# Altium integrated library Atmel Touch Solutions.IntLib: 35 symbols
Pins are listed as number, name and electrical type; pins without a type are passive.

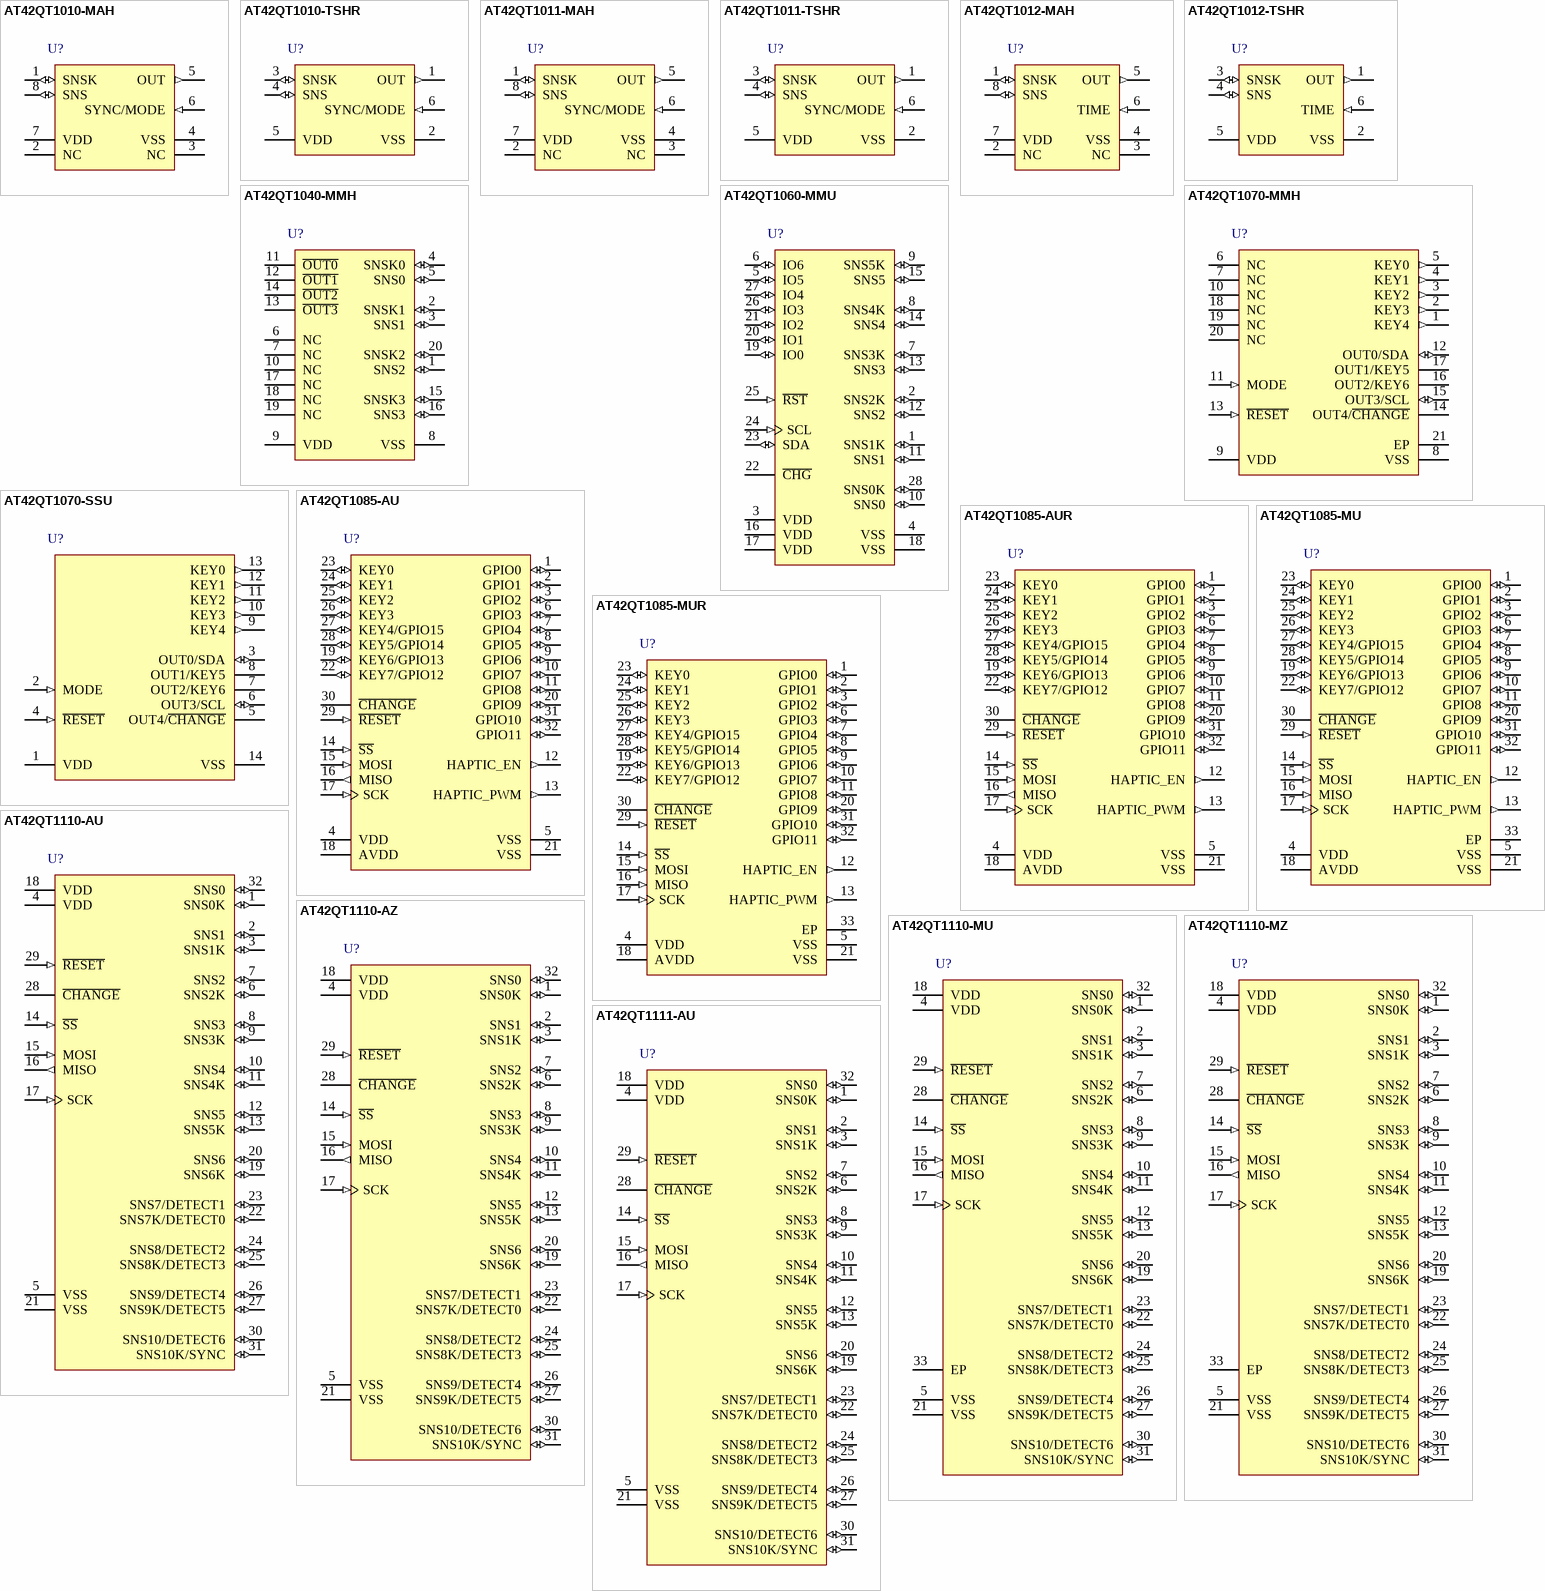
[diagram p0: symbols AT42QT1010-MAH to AT42QT1111-AU]

## AT42QT1010-MAH
designator U?
One-channel Touch Sensor IC with Reset Timer, -40° to +85° C, 8-pin UDFN/USON; DatasheetVersion: revH, May-2010; PackageVersion: revA, Dec-2009; PackageReference: 8MA4; PackageDescription: 8-Pad Plastic Dual Flat No Lead Package (UDFN/USON) Sawn,  2x2x0.6mm Body, 0.5mm Pitch, 0.9x1.5mm Exposed Pad; Code_JEDEC: MO-236/MO-252; ComponentLink1Description: Manufacturer URL; ComponentLink1URL: http://www.atmel.com/; ComponentLink2Description: Datasheet; ComponentLink2URL: http://www.atmel.com/Images/doc9541.pdf
footprint 8MA4 (SON, 8-Leads, Body 2x2mm, Pitch 0.5mm)
pins: 1 SNSK (io), 2 NC, 3 NC, 4 VSS (power), 5 OUT (out), 6 SYNC/MODE (in), 7 VDD (power), 8 SNS (io)

## AT42QT1010-TSHR
designator U?
One-channel Touch Sensor IC with Reset Timer, -40° to +85° C, 6-pin SOT23; DatasheetVersion: revH, May-2010; PackageVersion: revA, Jun-2008; PackageReference: 6ST1; PackageDescription: 6-Lead, 2.90 x 1.60 mm Plastic Small Outline Package (SOT23); Code_JEDEC: MO-178-AB; Code_IPC: SOT26A-6; ComponentLink1Description: Manufacturer URL; ComponentLink1URL: http://www.atmel.com/; ComponentLink2Description: Datasheet; ComponentLink2URL: http://www.atmel.com/Images/doc9541.pdf
footprint 6ST1_N (SOT23, 6-Leads, Body 2.9x1.6mm, Pitch 0.95mm, Lead Span 2.7mm, IPC Medium Density)
footprint 6ST1_L (SOT23, 6-Leads, Body 2.9x1.6mm, Pitch 0.95mm, Lead Span 2.7mm, IPC High Density)
footprint 6ST1_M (SOT23, 6-Leads, Body 2.9x1.6mm, Pitch 0.95mm, Lead Span 2.7mm, IPC Low Density)
pins: 1 OUT (out), 2 VSS (power), 3 SNSK (io), 4 SNS (io), 5 VDD (power), 6 SYNC/MODE (in)

## AT42QT1011-MAH
designator U?
One-channel Touch Sensor IC, -40° to +85° C, 8-pin UDFN/USON; DatasheetVersion: revH, May-2010; PackageVersion: revA, Dec-2009; PackageReference: 8MA4; PackageDescription: 8-Pad Plastic Dual Flat No Lead Package (UDFN/USON) Sawn,  2x2x0.6mm Body, 0.5mm Pitch, 0.9x1.5mm Exposed Pad; Code_JEDEC: MO-236/MO-252; ComponentLink1Description: Manufacturer URL; ComponentLink1URL: http://www.atmel.com/; ComponentLink2Description: Datasheet; ComponentLink2URL: http://www.atmel.com/Images/doc9542.pdf
footprint 8MA4 (SON, 8-Leads, Body 2x2mm, Pitch 0.5mm)
pins: 1 SNSK (io), 2 NC, 3 NC, 4 VSS (power), 5 OUT (out), 6 SYNC/MODE (in), 7 VDD (power), 8 SNS (io)

## AT42QT1011-TSHR
designator U?
One-channel Touch Sensor IC, -40° to +85° C, 6-pin SOT23; DatasheetVersion: revH, May-2010; PackageVersion: revA, Jun-2008; PackageReference: 6ST1; PackageDescription: 6-Lead, 2.90 x 1.60 mm Plastic Small Outline Package (SOT23); Code_JEDEC: MO-178-AB; Code_IPC: SOT26A-6; ComponentLink1Description: Manufacturer URL; ComponentLink1URL: http://www.atmel.com/; ComponentLink2Description: Datasheet; ComponentLink2URL: http://www.atmel.com/Images/doc9542.pdf
footprint 6ST1_N (SOT23, 6-Leads, Body 2.9x1.6mm, Pitch 0.95mm, Lead Span 2.7mm, IPC Medium Density)
footprint 6ST1_L (SOT23, 6-Leads, Body 2.9x1.6mm, Pitch 0.95mm, Lead Span 2.7mm, IPC High Density)
footprint 6ST1_M (SOT23, 6-Leads, Body 2.9x1.6mm, Pitch 0.95mm, Lead Span 2.7mm, IPC Low Density)
pins: 1 OUT (out), 2 VSS (power), 3 SNSK (io), 4 SNS (io), 5 VDD (power), 6 SYNC/MODE (in)

## AT42QT1012-MAH
designator U?
One-channel Toggle-mode Touch Sensor IC with Power Management Functions, -40° to +85° C, 8-pin UDFN/USON; DatasheetVersion: revD, Aug-2010; PackageVersion: revA, Dec-2009; PackageReference: 8MA4; PackageDescription: 8-Pad Plastic Dual Flat No Lead Package (UDFN/USON) Sawn,  2x2x0.6mm Body, 0.5mm Pitch, 0.9x1.5mm Exposed Pad; Code_JEDEC: MO-236/MO-252; ComponentLink1Description: Manufacturer URL; ComponentLink1URL: http://www.atmel.com/; ComponentLink2Description: Datasheet; ComponentLink2URL: http://www.atmel.com/Images/doc9543.pdf
footprint 8MA4 (SON, 8-Leads, Body 2x2mm, Pitch 0.5mm)
pins: 1 SNSK (io), 2 NC, 3 NC, 4 VSS (power), 5 OUT (out), 6 TIME (in), 7 VDD (power), 8 SNS (io)

## AT42QT1012-TSHR
designator U?
One-channel Toggle-mode Touch Sensor IC with Power Management Functions, -40° to +85° C, 6-pin SOT23; DatasheetVersion: revD, Aug-2010; PackageVersion: revA, Jun-2008; PackageReference: 6ST1; PackageDescription: 6-Lead, 2.90 x 1.60 mm Plastic Small Outline Package (SOT23); Code_JEDEC: MO-178-AB; Code_IPC: SOT26A-6; ComponentLink1Description: Manufacturer URL; ComponentLink1URL: http://www.atmel.com/; ComponentLink2Description: Datasheet; ComponentLink2URL: http://www.atmel.com/Images/doc9543.pdf
footprint 6ST1_N (SOT23, 6-Leads, Body 2.9x1.6mm, Pitch 0.95mm, Lead Span 2.7mm, IPC Medium Density)
footprint 6ST1_L (SOT23, 6-Leads, Body 2.9x1.6mm, Pitch 0.95mm, Lead Span 2.7mm, IPC High Density)
footprint 6ST1_M (SOT23, 6-Leads, Body 2.9x1.6mm, Pitch 0.95mm, Lead Span 2.7mm, IPC Low Density)
pins: 1 OUT (out), 2 VSS (power), 3 SNSK (io), 4 SNS (io), 5 VDD (power), 6 TIME (in)

## AT42QT1040-MMH
designator U?
QTouch 4-key Sensor IC, -40° to +85° C, 20-Pin VQFN; DatasheetVersion: revB, Apr-2009; PackageVersion: revB, Oct-2008; PackageReference: 20M2; PackageDescription: 20-pad, 3x3x0.85mm Body, Pitch 0.45mm, 1.55x1.55mm Exposed Pad, Plastic Very Thin QFN Package (VQFN); ComponentLink1Description: Manufacturer URL; ComponentLink1URL: http://www.atmel.com/; ComponentLink2Description: Datasheet; ComponentLink2URL: http://www.atmel.com/Images/doc9524.pdf
footprint 20M2_N (QFN, 20-Leads, Body 3x3mm, Pitch 0.45mm, Thermal Pad 1.7x1.7mm, IPC Medium Density)
footprint 20M2_L (QFN, 20-Leads, Body 3x3mm, Pitch 0.45mm, Thermal Pad 1.7x1.7mm, IPC High Density)
footprint 20M2_M (QFN, 20-Leads, Body 3x3mm, Pitch 0.45mm, Thermal Pad 1.7x1.7mm, IPC Low Density)
pins: 1 SNS2 (io), 2 SNSK1 (io), 3 SNS1 (io), 4 SNSK0 (io), 5 SNS0 (io), 6 NC, 7 NC, 8 VSS (power), 9 VDD (power), 10 NC, 11 ~{OUT0} (oc), 12 ~{OUT1} (oc), 13 ~{OUT3} (oc), 14 ~{OUT2} (oc), 15 SNSK3 (io), 16 SNS3 (io), 17 NC, 18 NC, 19 NC, 20 SNSK2 (io)

## AT42QT1060-MMU
designator U?
QTouch 6-channel Sensor IC, -40° to +85° C, 28-Pin VQFN; DatasheetVersion: revE, Feb-2009; PackageVersion: revB, Nov-2008; PackageReference: 28M1; PackageDescription: 28-pad, 4x4x1.0mm Body, Pitch 0.45mm, 2.4x2.4mm Exposed Pad, Plastic Very Thin QFN Package (VQFN); ComponentLink1Description: Manufacturer URL; ComponentLink1URL: http://www.atmel.com/; ComponentLink2Description: Datasheet; ComponentLink2URL: http://www.atmel.com/Images/doc9505.pdf
footprint 28M1_N (QFN, 28-Leads, Body 4x4mm, Pitch 0.45mm, Thermal Pad 2.5x2.5mm, IPC Medium Density)
footprint 28M1_L (QFN, 28-Leads, Body 4x4mm, Pitch 0.45mm, Thermal Pad 2.5x2.5mm, IPC High Density)
footprint 28M1_M (QFN, 28-Leads, Body 4x4mm, Pitch 0.45mm, Thermal Pad 2.5x2.5mm, IPC Low Density)
pins: 1 SNS1K (io), 2 SNS2K (io), 3 VDD (power), 4 VSS (power), 5 IO5 (io), 6 IO6 (io), 7 SNS3K (io), 8 SNS4K (io), 9 SNS5K (io), 10 SNS0 (io), 11 SNS1 (io), 12 SNS2 (io), 13 SNS3 (io), 14 SNS4 (io), 15 SNS5 (io), 16 VDD (power), 17 VDD (power), 18 VSS (power), 19 IO0 (io), 20 IO1 (io), 21 IO2 (io), 22 ~{CHG} (oc), 23 SDA (io), 24 SCL (in), 25 ~{RST} (in), 26 IO3 (io), 27 IO4 (io), 28 SNS0K (io)

## AT42QT1070-MMH
designator U?
QTouch 7-channel Sensor IC, -40° to +85° C, 20-Pin VQFN; DatasheetVersion: revA, Oct-2010; PackageVersion: revB, Oct-2008; PackageReference: 20M2; PackageDescription: 20-pad, 3x3x0.85mm Body, Pitch 0.45mm, 1.55x1.55mm Exposed Pad, Plastic Very Thin QFN Package (VQFN); ComponentLink1Description: Manufacturer URL; ComponentLink1URL: http://www.atmel.com/; ComponentLink2Description: Datasheet; ComponentLink2URL: http://www.atmel.com/Images/doc9596.pdf
footprint 20M2_N (QFN, 20-Leads, Body 3x3mm, Pitch 0.45mm, Thermal Pad 1.7x1.7mm, IPC Medium Density)
footprint 20M2_L (QFN, 20-Leads, Body 3x3mm, Pitch 0.45mm, Thermal Pad 1.7x1.7mm, IPC High Density)
footprint 20M2_M (QFN, 20-Leads, Body 3x3mm, Pitch 0.45mm, Thermal Pad 1.7x1.7mm, IPC Low Density)
pins: 1 KEY4 (out), 2 KEY3 (out), 3 KEY2 (out), 4 KEY1 (out), 5 KEY0 (out), 6 NC, 7 NC, 8 VSS (power), 9 VDD (power), 10 NC, 11 MODE (in), 12 OUT0/SDA (io), 13 ~{RESET} (in), 14 OUT4/~{CHANGE} (oc), 15 OUT3/SCL (io), 16 OUT2/KEY6 (oc), 17 OUT1/KEY5 (oc), 18 NC, 19 NC, 20 NC, 21 EP (power)

## AT42QT1070-SSU
designator U?
QTouch 7-channel Sensor IC, -40° to +85° C, 14-Pin SOIC; DatasheetVersion: revA, Oct-2010; PackageVersion: revA, Feb-2002; PackageReference: 14S1; PackageDescription: 14-Lead, 0.150” Wide Body, Plastic Gull Wing Small Outline Package (SOIC); Code_JEDEC: MS-012-AB; Code_IPC: SOIC127P600-14; ComponentLink1Description: Manufacturer URL; ComponentLink1URL: http://www.atmel.com/; ComponentLink2Description: Datasheet; ComponentLink2URL: http://www.atmel.com/Images/doc9596.pdf
footprint 14S1_N (SOIC, 14-Leads, Body 8.6x3.9mm, Pitch 1.27mm, IPC Medium Density)
footprint 14S1_L (SOIC, 14-Leads, Body 8.6x3.9mm, Pitch 1.27mm, IPC High Density)
footprint 14S1_M (SOIC, 14-Leads, Body 8.6x3.9mm, Pitch 1.27mm, IPC Low Density)
pins: 1 VDD (power), 2 MODE (in), 3 OUT0/SDA (io), 4 ~{RESET} (in), 5 OUT4/~{CHANGE} (oc), 6 OUT3/SCL (io), 7 OUT2/KEY6 (oc), 8 OUT1/KEY5 (oc), 9 KEY4 (out), 10 KEY3 (out), 11 KEY2 (out), 12 KEY1 (out), 13 KEY0 (out), 14 VSS (power)

## AT42QT1085-AU
designator U?
QTouch 8-key Sensor IC, -40° to +85° C, 32-Pin TQFP; DatasheetVersion: revCX, Dec-2011; PackageVersion: revC, Oct-2010; PackageReference: 32A; PackageDescription: 32-Lead, 7x7x1.0 mm Body, 0.8mm Lead Pitch, Thin Profile Plastic Quad Flat Package (TQFP); Code_JEDEC: MS-026-ABA; ComponentLink1Description: Manufacturer URL; ComponentLink1URL: http://www.atmel.com/; ComponentLink2Description: Datasheet; ComponentLink2URL: http://www.atmel.com/Images/doc9625.pdf
footprint 32A_N (Thin QFP, 32-Leads, Body 7x7mm, Pitch 0.8mm, IPC Medium Density)
footprint 32A_L (Thin QFP, 32-Leads, Body 7x7mm, Pitch 0.8mm, IPC High Density)
footprint 32A_M (Thin QFP, 32-Leads, Body 7x7mm, Pitch 0.8mm, IPC Low Density)
pins: 1 GPIO0 (io), 2 GPIO1 (io), 3 GPIO2 (io), 4 VDD (power), 5 VSS (power), 6 GPIO3 (io), 7 GPIO4 (io), 8 GPIO5 (io), 9 GPIO6 (io), 10 GPIO7 (io), 11 GPIO8 (io), 12 HAPTIC_EN (out), 13 HAPTIC_PWM (out), 14 ~{SS} (in), 15 MOSI (in), 16 MISO (out), 17 SCK (in), 18 AVDD (power), 19 KEY6/GPIO13 (io), 20 GPIO9 (io), 21 VSS (power), 22 KEY7/GPIO12 (io), 23 KEY0 (io), 24 KEY1 (io), 25 KEY2 (io), 26 KEY3 (io), 27 KEY4/GPIO15 (io), 28 KEY5/GPIO14 (io), 29 ~{RESET} (in), 30 ~{CHANGE} (oc), 31 GPIO10 (io), 32 GPIO11 (io)

## AT42QT1085-AUR
designator U?
QTouch 8-key Sensor IC, -40° to +85° C, 32-Pin TQFP; DatasheetVersion: revCX, Dec-2011; PackageVersion: revC, Oct-2010; PackageReference: 32A; PackageDescription: 32-Lead, 7x7x1.0 mm Body, 0.8mm Lead Pitch, Thin Profile Plastic Quad Flat Package (TQFP); Code_JEDEC: MS-026-ABA; ComponentLink1Description: Manufacturer URL; ComponentLink1URL: http://www.atmel.com/; ComponentLink2Description: Datasheet; ComponentLink2URL: http://www.atmel.com/Images/doc9625.pdf
footprint 32A_N (Thin QFP, 32-Leads, Body 7x7mm, Pitch 0.8mm, IPC Medium Density)
footprint 32A_L (Thin QFP, 32-Leads, Body 7x7mm, Pitch 0.8mm, IPC High Density)
footprint 32A_M (Thin QFP, 32-Leads, Body 7x7mm, Pitch 0.8mm, IPC Low Density)
pins: 1 GPIO0 (io), 2 GPIO1 (io), 3 GPIO2 (io), 4 VDD (power), 5 VSS (power), 6 GPIO3 (io), 7 GPIO4 (io), 8 GPIO5 (io), 9 GPIO6 (io), 10 GPIO7 (io), 11 GPIO8 (io), 12 HAPTIC_EN (out), 13 HAPTIC_PWM (out), 14 ~{SS} (in), 15 MOSI (in), 16 MISO (out), 17 SCK (in), 18 AVDD (power), 19 KEY6/GPIO13 (io), 20 GPIO9 (io), 21 VSS (power), 22 KEY7/GPIO12 (io), 23 KEY0 (io), 24 KEY1 (io), 25 KEY2 (io), 26 KEY3 (io), 27 KEY4/GPIO15 (io), 28 KEY5/GPIO14 (io), 29 ~{RESET} (in), 30 ~{CHANGE} (oc), 31 GPIO10 (io), 32 GPIO11 (io)

## AT42QT1085-MU
designator U?
QTouch 8-key Sensor IC, -40° to +85° C, 32-Pin MLF; DatasheetVersion: revCX, Dec-2011; PackageVersion: revE, May-2006; PackageReference: 32M1-A; PackageDescription: 32-Pin Micro Lead Frame Package (MLF),  5 x 5 x 1.0 mm Body, Pitch 0.50 mm, 3.10mm Exposed Pad; Code_JEDEC: MO-220-VHHD-2; ComponentLink1Description: Manufacturer URL; ComponentLink1URL: http://www.atmel.com/; ComponentLink2Description: Datasheet; ComponentLink2URL: http://www.atmel.com/Images/doc9625.pdf
footprint 32M1-A_N (QFN, 32-Leads, Body 5x5mm, Pitch 0.5mm, Thermal Pad 3.3x3.3mm, IPC Medium Density)
footprint 32M1-A_L (QFN, 32-Leads, Body 5x5mm, Pitch 0.5mm, Thermal Pad 3.3x3.3mm, IPC High Density)
footprint 32M1-A_M (QFN, 32-Leads, Body 5x5mm, Pitch 0.5mm, Thermal Pad 3.3x3.3mm, IPC Low Density)
pins: 1 GPIO0 (io), 2 GPIO1 (io), 3 GPIO2 (io), 4 VDD (power), 5 VSS (power), 6 GPIO3 (io), 7 GPIO4 (io), 8 GPIO5 (io), 9 GPIO6 (io), 10 GPIO7 (io), 11 GPIO8 (io), 12 HAPTIC_EN (out), 13 HAPTIC_PWM (out), 14 ~{SS} (in), 15 MOSI (in), 16 MISO (in), 17 SCK (in), 18 AVDD (power), 19 KEY6/GPIO13 (io), 20 GPIO9 (io), 21 VSS (power), 22 KEY7/GPIO12 (io), 23 KEY0 (io), 24 KEY1 (io), 25 KEY2 (io), 26 KEY3 (io), 27 KEY4/GPIO15 (io), 28 KEY5/GPIO14 (io), 29 ~{RESET} (in), 30 ~{CHANGE} (oc), 31 GPIO10 (io), 32 GPIO11 (io), 33 EP (power)

## AT42QT1085-MUR
designator U?
QTouch 8-key Sensor IC, -40° to +85° C, 32-Pin MLF; DatasheetVersion: revCX, Dec-2011; PackageVersion: revE, May-2006; PackageReference: 32M1-A; PackageDescription: 32-Pin Micro Lead Frame Package (MLF),  5 x 5 x 1.0 mm Body, Pitch 0.50 mm, 3.10mm Exposed Pad; Code_JEDEC: MO-220-VHHD-2; ComponentLink1Description: Manufacturer URL; ComponentLink1URL: http://www.atmel.com/; ComponentLink2Description: Datasheet; ComponentLink2URL: http://www.atmel.com/Images/doc9625.pdf
footprint 32M1-A_N (QFN, 32-Leads, Body 5x5mm, Pitch 0.5mm, Thermal Pad 3.3x3.3mm, IPC Medium Density)
footprint 32M1-A_L (QFN, 32-Leads, Body 5x5mm, Pitch 0.5mm, Thermal Pad 3.3x3.3mm, IPC High Density)
footprint 32M1-A_M (QFN, 32-Leads, Body 5x5mm, Pitch 0.5mm, Thermal Pad 3.3x3.3mm, IPC Low Density)
pins: 1 GPIO0 (io), 2 GPIO1 (io), 3 GPIO2 (io), 4 VDD (power), 5 VSS (power), 6 GPIO3 (io), 7 GPIO4 (io), 8 GPIO5 (io), 9 GPIO6 (io), 10 GPIO7 (io), 11 GPIO8 (io), 12 HAPTIC_EN (out), 13 HAPTIC_PWM (out), 14 ~{SS} (in), 15 MOSI (in), 16 MISO (in), 17 SCK (in), 18 AVDD (power), 19 KEY6/GPIO13 (io), 20 GPIO9 (io), 21 VSS (power), 22 KEY7/GPIO12 (io), 23 KEY0 (io), 24 KEY1 (io), 25 KEY2 (io), 26 KEY3 (io), 27 KEY4/GPIO15 (io), 28 KEY5/GPIO14 (io), 29 ~{RESET} (in), 30 ~{CHANGE} (oc), 31 GPIO10 (io), 32 GPIO11 (io), 33 EP (power)

## AT42QT1110-AU
designator U?
QTouch 11-key Sensor IC, 3.0 to 5.5V, -40° to +85° C, 32-Pin TQFP; DatasheetVersion: revI, Mar-2010; PackageVersion: revC, Oct-2010; PackageReference: 32A; PackageDescription: 32-Lead, 7x7x1.0 mm Body, 0.8mm Lead Pitch, Thin Profile Plastic Quad Flat Package (TQFP); Code_JEDEC: MS-026-ABA; ComponentLink1Description: Manufacturer URL; ComponentLink1URL: http://www.atmel.com/; ComponentLink2Description: Datasheet; ComponentLink2URL: http://www.atmel.com/Images/doc9520.pdf
footprint 32A_N (Thin QFP, 32-Leads, Body 7x7mm, Pitch 0.8mm, IPC Medium Density)
footprint 32A_L (Thin QFP, 32-Leads, Body 7x7mm, Pitch 0.8mm, IPC High Density)
footprint 32A_M (Thin QFP, 32-Leads, Body 7x7mm, Pitch 0.8mm, IPC Low Density)
pins: 1 SNS0K (io), 2 SNS1 (io), 3 SNS1K (io), 4 VDD (power), 5 VSS (power), 6 SNS2K (io), 7 SNS2 (io), 8 SNS3 (io), 9 SNS3K (io), 10 SNS4 (io), 11 SNS4K (io), 12 SNS5 (io), 13 SNS5K (io), 14 ~{SS} (in), 15 MOSI (in), 16 MISO (out), 17 SCK (in), 18 VDD (power), 19 SNS6K (io), 20 SNS6 (io), 21 VSS (power), 22 SNS7K/DETECT0 (io), 23 SNS7/DETECT1 (io), 24 SNS8/DETECT2 (io), 25 SNS8K/DETECT3 (io), 26 SNS9/DETECT4 (io), 27 SNS9K/DETECT5 (io), 28 ~{CHANGE} (oc), 29 ~{RESET} (in), 30 SNS10/DETECT6 (io), 31 SNS10K/SYNC (io), 32 SNS0 (io)

## AT42QT1110-AZ
designator U?
QTouch 11-key Sensor IC, Automotive Qualified, -40° to +125° C32-Pin TQFP; DatasheetVersion: revI, Mar-2010; PackageVersion: revB, Jul-2007; PackageReference: 32MA; PackageDescription: 32-Lead Thin Profile Plastic Quad Flatpack (TQFP) - 7x7x1mm Body,  0.8 mm Pitch; ComponentLink1Description: Manufacturer URL; ComponentLink1URL: http://www.atmel.com/; ComponentLink2Description: Datasheet; ComponentLink2URL: http://www.atmel.com/Images/doc9570.pdf
footprint 32MA_N (Thin QFP, 32-Leads, Body 7x7mm, Pitch 0.8mm, IPC Medium Density)
footprint 32MA_L (Thin QFP, 32-Leads, Body 7x7mm, Pitch 0.8mm, IPC High Density)
footprint 32MA_M (Thin QFP, 32-Leads, Body 7x7mm, Pitch 0.8mm, IPC Low Density)
pins: 1 SNS0K (io), 2 SNS1 (io), 3 SNS1K (io), 4 VDD (power), 5 VSS (power), 6 SNS2K (io), 7 SNS2 (io), 8 SNS3 (io), 9 SNS3K (io), 10 SNS4 (io), 11 SNS4K (io), 12 SNS5 (io), 13 SNS5K (io), 14 ~{SS} (in), 15 MOSI (in), 16 MISO (out), 17 SCK (in), 18 VDD (power), 19 SNS6K (io), 20 SNS6 (io), 21 VSS (power), 22 SNS7K/DETECT0 (io), 23 SNS7/DETECT1 (io), 24 SNS8/DETECT2 (io), 25 SNS8K/DETECT3 (io), 26 SNS9/DETECT4 (io), 27 SNS9K/DETECT5 (io), 28 ~{CHANGE} (oc), 29 ~{RESET} (in), 30 SNS10/DETECT6 (io), 31 SNS10K/SYNC (io), 32 SNS0 (io)

## AT42QT1110-MU
designator U?
QTouch 11-key Sensor IC, 3.0 to 5.5V, -40° to +85° C, 32-Pin MLF; DatasheetVersion: revI, Mar-2010; PackageVersion: revE, May-2006; PackageReference: 32M1-A; PackageDescription: 32-Pin Micro Lead Frame Package (MLF),  5 x 5 x 1.0 mm Body, Pitch 0.50 mm, 3.10mm Exposed Pad; Code_JEDEC: MO-220-VHHD-2; ComponentLink1Description: Manufacturer URL; ComponentLink1URL: http://www.atmel.com/; ComponentLink2Description: Datasheet; ComponentLink2URL: http://www.atmel.com/Images/doc9520.pdf
footprint 32M1-A_N (QFN, 32-Leads, Body 5x5mm, Pitch 0.5mm, Thermal Pad 3.3x3.3mm, IPC Medium Density)
footprint 32M1-A_L (QFN, 32-Leads, Body 5x5mm, Pitch 0.5mm, Thermal Pad 3.3x3.3mm, IPC High Density)
footprint 32M1-A_M (QFN, 32-Leads, Body 5x5mm, Pitch 0.5mm, Thermal Pad 3.3x3.3mm, IPC Low Density)
pins: 1 SNS0K (io), 2 SNS1 (io), 3 SNS1K (io), 4 VDD (power), 5 VSS (power), 6 SNS2K (io), 7 SNS2 (io), 8 SNS3 (io), 9 SNS3K (io), 10 SNS4 (io), 11 SNS4K (io), 12 SNS5 (io), 13 SNS5K (io), 14 ~{SS} (in), 15 MOSI (in), 16 MISO (out), 17 SCK (in), 18 VDD (power), 19 SNS6K (io), 20 SNS6 (io), 21 VSS (power), 22 SNS7K/DETECT0 (io), 23 SNS7/DETECT1 (io), 24 SNS8/DETECT2 (io), 25 SNS8K/DETECT3 (io), 26 SNS9/DETECT4 (io), 27 SNS9K/DETECT5 (io), 28 ~{CHANGE} (oc), 29 ~{RESET} (in), 30 SNS10/DETECT6 (io), 31 SNS10K/SYNC (io), 32 SNS0 (io), 33 EP (power)

## AT42QT1110-MZ
designator U?
QTouch 11-key Sensor IC, Automotive Qualified, -40° to +125° C32-Pin QFN; DatasheetVersion: revI, Mar-2010; PackageVersion: revH, Nov-2008; PackageReference: 32PN; PackageDescription: 32-Pin Quad Flat No-Lead, 5 x 5 mm Body,  0.5 mm Pitch (QFN); Code_JEDEC: MO-220-VHHD-2; ComponentLink1Description: Manufacturer URL; ComponentLink1URL: http://www.atmel.com/; ComponentLink2Description: Datasheet; ComponentLink2URL: http://www.atmel.com/Images/doc9570.pdf
footprint 32PN_N (QFN, 32-Leads, Body 5x5mm, Pitch 0.5mm, Thermal Pad 3.2x3.2mm, IPC Medium Density)
footprint 32PN_L (QFN, 32-Leads, Body 5x5mm, Pitch 0.5mm, Thermal Pad 3.2x3.2mm, IPC High Density)
footprint 32PN_M (QFN, 32-Leads, Body 5x5mm, Pitch 0.5mm, Thermal Pad 3.2x3.2mm, IPC Low Density)
pins: 1 SNS0K (io), 2 SNS1 (io), 3 SNS1K (io), 4 VDD (power), 5 VSS (power), 6 SNS2K (io), 7 SNS2 (io), 8 SNS3 (io), 9 SNS3K (io), 10 SNS4 (io), 11 SNS4K (io), 12 SNS5 (io), 13 SNS5K (io), 14 ~{SS} (in), 15 MOSI (in), 16 MISO (out), 17 SCK (in), 18 VDD (power), 19 SNS6K (io), 20 SNS6 (io), 21 VSS (power), 22 SNS7K/DETECT0 (io), 23 SNS7/DETECT1 (io), 24 SNS8/DETECT2 (io), 25 SNS8K/DETECT3 (io), 26 SNS9/DETECT4 (io), 27 SNS9K/DETECT5 (io), 28 ~{CHANGE} (oc), 29 ~{RESET} (in), 30 SNS10/DETECT6 (io), 31 SNS10K/SYNC (io), 32 SNS0 (io), 33 EP (power)

## AT42QT1111-AU
designator U?
QTouch 11-key Sensor IC, 1.8 to 5.5V, -40° to +85° C, 32-Pin TQFP; DatasheetVersion: revB, Aug-2010; PackageVersion: revC, Oct-2010; PackageReference: 32A; PackageDescription: 32-Lead, 7x7x1.0 mm Body, 0.8mm Lead Pitch, Thin Profile Plastic Quad Flat Package (TQFP); Code_JEDEC: MS-026-ABA; ComponentLink1Description: Manufacturer URL; ComponentLink1URL: http://www.atmel.com/; ComponentLink2Description: Datasheet; ComponentLink2URL: http://www.atmel.com/Images/doc9571.pdf
footprint 32A_N (Thin QFP, 32-Leads, Body 7x7mm, Pitch 0.8mm, IPC Medium Density)
footprint 32A_L (Thin QFP, 32-Leads, Body 7x7mm, Pitch 0.8mm, IPC High Density)
footprint 32A_M (Thin QFP, 32-Leads, Body 7x7mm, Pitch 0.8mm, IPC Low Density)
pins: 1 SNS0K (io), 2 SNS1 (io), 3 SNS1K (io), 4 VDD (power), 5 VSS (power), 6 SNS2K (io), 7 SNS2 (io), 8 SNS3 (io), 9 SNS3K (io), 10 SNS4 (io), 11 SNS4K (io), 12 SNS5 (io), 13 SNS5K (io), 14 ~{SS} (in), 15 MOSI (in), 16 MISO (out), 17 SCK (in), 18 VDD (power), 19 SNS6K (io), 20 SNS6 (io), 21 VSS (power), 22 SNS7K/DETECT0 (io), 23 SNS7/DETECT1 (io), 24 SNS8/DETECT2 (io), 25 SNS8K/DETECT3 (io), 26 SNS9/DETECT4 (io), 27 SNS9K/DETECT5 (io), 28 ~{CHANGE} (oc), 29 ~{RESET} (in), 30 SNS10/DETECT6 (io), 31 SNS10K/SYNC (io), 32 SNS0 (io)

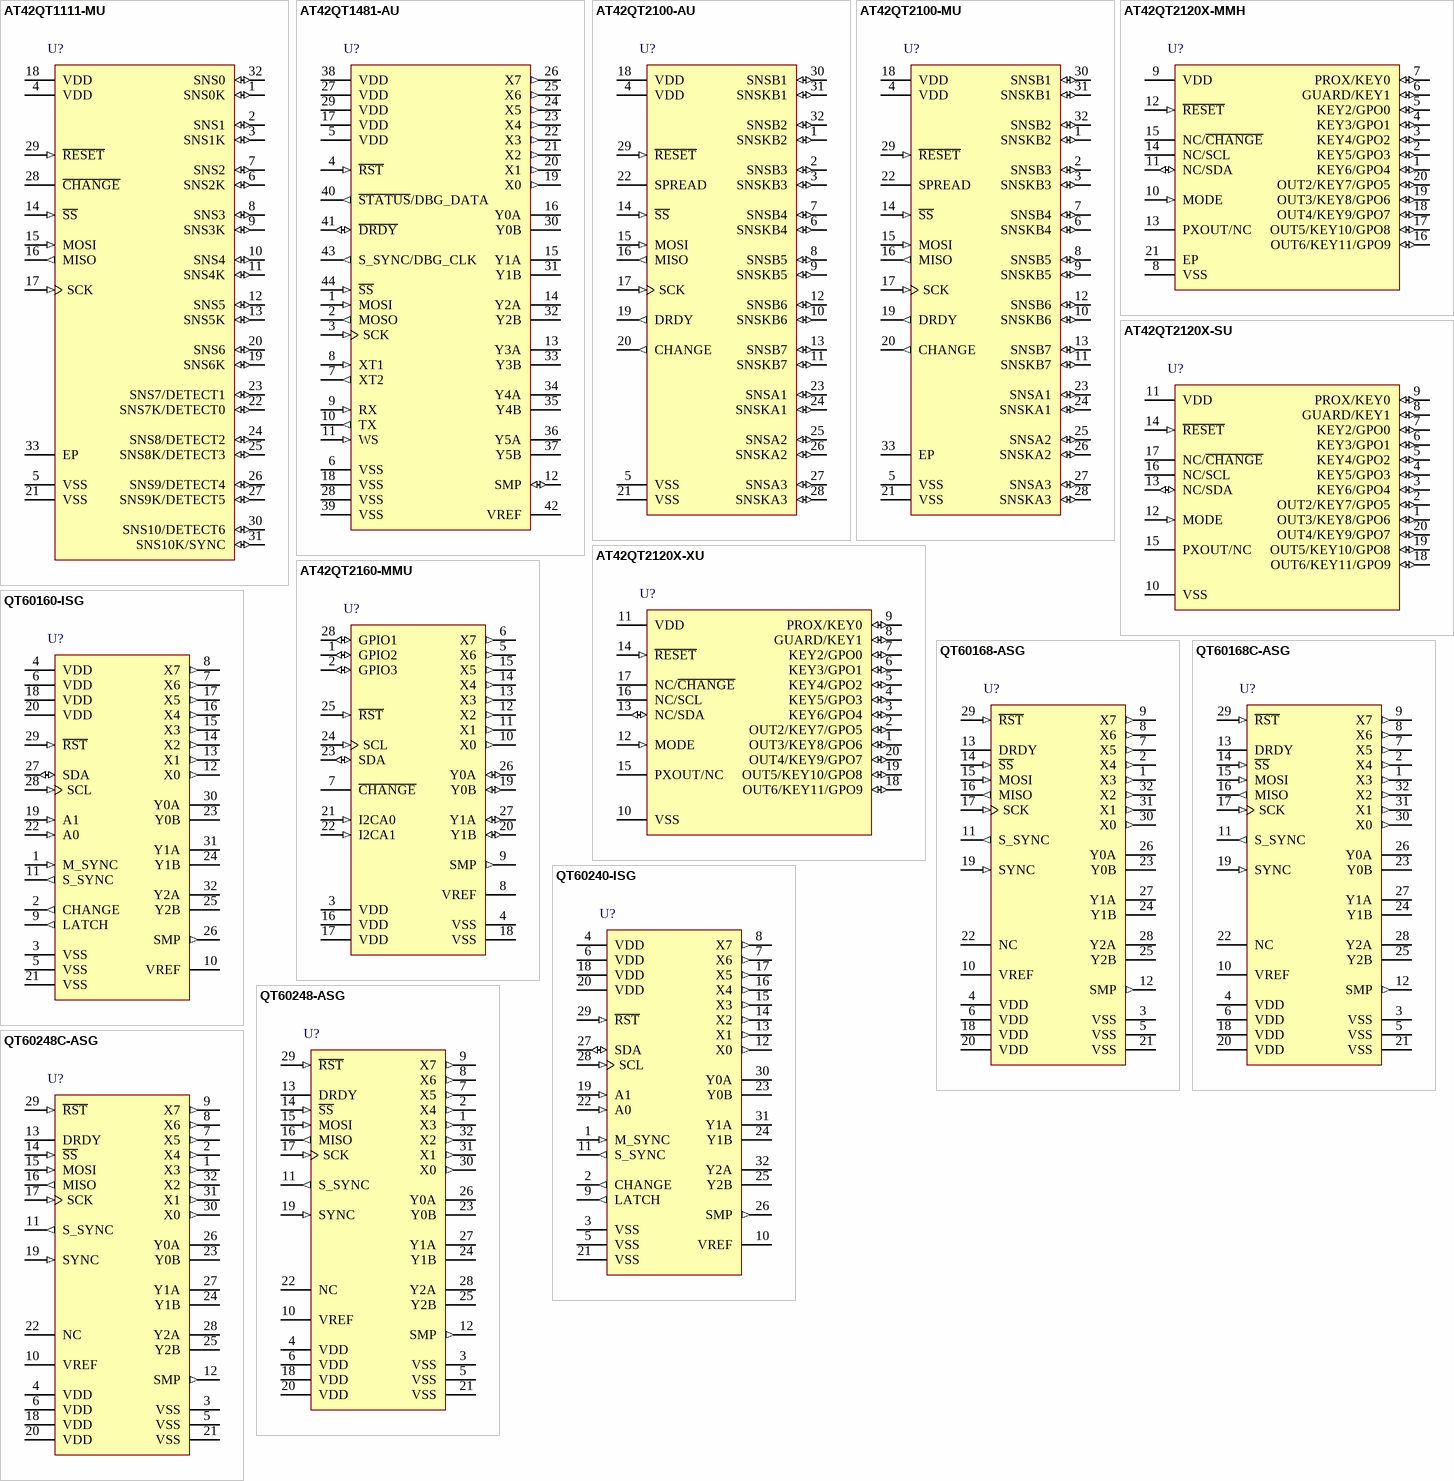
[diagram p1: symbols AT42QT1111-MU to QT60248C-ASG]

## AT42QT1111-MU
designator U?
QTouch 11-key Sensor IC, 1.8 to 5.5V, -40° to +85° C, 32-Pin MLF; DatasheetVersion: revB, Aug-2010; PackageVersion: revE, May-2006; PackageReference: 32M1-A; PackageDescription: 32-Pin Micro Lead Frame Package (MLF),  5 x 5 x 1.0 mm Body, Pitch 0.50 mm, 3.10mm Exposed Pad; Code_JEDEC: MO-220-VHHD-2; ComponentLink1Description: Manufacturer URL; ComponentLink1URL: http://www.atmel.com/; ComponentLink2Description: Datasheet; ComponentLink2URL: http://www.atmel.com/Images/doc9571.pdf
footprint 32M1-A_N (QFN, 32-Leads, Body 5x5mm, Pitch 0.5mm, Thermal Pad 3.3x3.3mm, IPC Medium Density)
footprint 32M1-A_L (QFN, 32-Leads, Body 5x5mm, Pitch 0.5mm, Thermal Pad 3.3x3.3mm, IPC High Density)
footprint 32M1-A_M (QFN, 32-Leads, Body 5x5mm, Pitch 0.5mm, Thermal Pad 3.3x3.3mm, IPC Low Density)
pins: 1 SNS0K (io), 2 SNS1 (io), 3 SNS1K (io), 4 VDD (power), 5 VSS (power), 6 SNS2K (io), 7 SNS2 (io), 8 SNS3 (io), 9 SNS3K (io), 10 SNS4 (io), 11 SNS4K (io), 12 SNS5 (io), 13 SNS5K (io), 14 ~{SS} (in), 15 MOSI (in), 16 MISO (out), 17 SCK (in), 18 VDD (power), 19 SNS6K (io), 20 SNS6 (io), 21 VSS (power), 22 SNS7K/DETECT0 (io), 23 SNS7/DETECT1 (io), 24 SNS8/DETECT2 (io), 25 SNS8K/DETECT3 (io), 26 SNS9/DETECT4 (io), 27 SNS9K/DETECT5 (io), 28 ~{CHANGE} (oc), 29 ~{RESET} (in), 30 SNS10/DETECT6 (io), 31 SNS10K/SYNC (io), 32 SNS0 (io), 33 EP (power)

## AT42QT1481-AU
designator U?
48-key QMatrix IC, 44-Pin TQFP; DatasheetVersion: revB, Dec-2010; PackageVersion: revC, Oct-2010; PackageReference: 44A; PackageDescription: 44-Pin Plastic Thin Profile Quad Flat Pack, 10 x 10 x 1.0 mm Body, 0.8 mm Pitch (TQFP); Code_JEDEC: MS-026-ACB; ComponentLink1Description: Manufacturer URL; ComponentLink1URL: http://www.atmel.com/; ComponentLink2Description: Datasheet; ComponentLink2URL: http://www.atmel.com/Images/doc9621.pdf
footprint 44A_N (Thin QFP, 44-Leads, Body 10x10mm, Pitch 0.8mm, IPC Medium Density)
footprint 44A_L (Thin QFP, 44-Leads, Body 10x10mm, Pitch 0.8mm, IPC High Density)
footprint 44A_M (Thin QFP, 44-Leads, Body 10x10mm, Pitch 0.8mm, IPC Low Density)
pins: 1 MOSI (in), 2 MOSO (out), 3 SCK (in), 4 ~{RST} (in), 5 VDD (power), 6 VSS (power), 7 XT2 (out), 8 XT1 (in), 9 RX (in), 10 TX (out), 11 WS (in), 12 SMP (io), 13 Y3A, 14 Y2A, 15 Y1A, 16 Y0A, 17 VDD (power), 18 VSS (power), 19 X0 (out), 20 X1 (out), 21 X2 (out), 22 X3 (out), 23 X4 (out), 24 X5 (out), 25 X6 (out), 26 X7 (out), 27 VDD (power), 28 VSS (power), 29 VDD (power), 30 Y0B, 31 Y1B, 32 Y2B, 33 Y3B, 34 Y4A, 35 Y4B, 36 Y5A, 37 Y5B, 38 VDD (power), 39 VSS (power), 40 ~{STATUS}/DBG_DATA (out), 41 ~{DRDY} (io), 42 VREF, 43 S_SYNC/DBG_CLK (out), 44 ~{SS} (in)

## AT42QT2100-AU
designator U?
QTouch Touch Sensor IC, -40° to +85° C, 32-Pin TQFP; DatasheetVersion: revCX, Nov-2011; PackageVersion: revC, Oct-2010; PackageReference: 32A; PackageDescription: 32-Lead, 7x7x1.0 mm Body, 0.8mm Lead Pitch, Thin Profile Plastic Quad Flat Package (TQFP); Code_JEDEC: MS-026-ABA; ComponentLink1Description: Manufacturer URL; ComponentLink1URL: http://www.atmel.com/; ComponentLink2Description: Datasheet; ComponentLink2URL: http://www.atmel.com/Images/doc9554.pdf
footprint 32A_N (Thin QFP, 32-Leads, Body 7x7mm, Pitch 0.8mm, IPC Medium Density)
footprint 32A_L (Thin QFP, 32-Leads, Body 7x7mm, Pitch 0.8mm, IPC High Density)
footprint 32A_M (Thin QFP, 32-Leads, Body 7x7mm, Pitch 0.8mm, IPC Low Density)
pins: 1 SNSKB2 (io), 2 SNSB3 (io), 3 SNSKB3 (io), 4 VDD (power), 5 VSS (power), 6 SNSKB4 (io), 7 SNSB4 (io), 8 SNSB5 (io), 9 SNSKB5 (io), 10 SNSKB6 (io), 11 SNSKB7 (io), 12 SNSB6 (io), 13 SNSB7 (io), 14 ~{SS} (in), 15 MOSI (in), 16 MISO (out), 17 SCK (in), 18 VDD (power), 19 DRDY (out), 20 CHANGE (out), 21 VSS (power), 22 SPREAD (oc), 23 SNSA1 (io), 24 SNSKA1 (io), 25 SNSA2 (io), 26 SNSKA2 (io), 27 SNSA3 (io), 28 SNSKA3 (io), 29 ~{RESET} (in), 30 SNSB1 (io), 31 SNSKB1 (io), 32 SNSB2 (io)

## AT42QT2100-MU
designator U?
QTouch Touch Sensor IC, -40° to +85° C, 32-Pin MLF; DatasheetVersion: revCX, Nov-2011; PackageVersion: revE, May-2006; PackageReference: 32M1-A; PackageDescription: 32-Pin Micro Lead Frame Package (MLF),  5 x 5 x 1.0 mm Body, Pitch 0.50 mm, 3.10mm Exposed Pad; Code_JEDEC: MO-220-VHHD-2; ComponentLink1Description: Manufacturer URL; ComponentLink1URL: http://www.atmel.com/; ComponentLink2Description: Datasheet; ComponentLink2URL: http://www.atmel.com/Images/doc9554.pdf
footprint 32M1-A_N (QFN, 32-Leads, Body 5x5mm, Pitch 0.5mm, Thermal Pad 3.3x3.3mm, IPC Medium Density)
footprint 32M1-A_L (QFN, 32-Leads, Body 5x5mm, Pitch 0.5mm, Thermal Pad 3.3x3.3mm, IPC High Density)
footprint 32M1-A_M (QFN, 32-Leads, Body 5x5mm, Pitch 0.5mm, Thermal Pad 3.3x3.3mm, IPC Low Density)
pins: 1 SNSKB2 (io), 2 SNSB3 (io), 3 SNSKB3 (io), 4 VDD (power), 5 VSS (power), 6 SNSKB4 (io), 7 SNSB4 (io), 8 SNSB5 (io), 9 SNSKB5 (io), 10 SNSKB6 (io), 11 SNSKB7 (io), 12 SNSB6 (io), 13 SNSB7 (io), 14 ~{SS} (in), 15 MOSI (in), 16 MISO (out), 17 SCK (in), 18 VDD (power), 19 DRDY (out), 20 CHANGE (out), 21 VSS (power), 22 SPREAD (oc), 23 SNSA1 (io), 24 SNSKA1 (io), 25 SNSA2 (io), 26 SNSKA2 (io), 27 SNSA3 (io), 28 SNSKA3 (io), 29 ~{RESET} (in), 30 SNSB1 (io), 31 SNSKB1 (io), 32 SNSB2 (io), 33 EP (power)

## AT42QT2120X-MMH
designator U?
QTouch 12-channel Touch Sensor IC, -40° to +85° C, 20-Pin VQFN; DatasheetVersion: revA, Nov-2011; PackageVersion: revB, Oct-2008; PackageReference: 20M2; PackageDescription: 20-pad, 3x3x0.85mm Body, Pitch 0.45mm, 1.55x1.55mm Exposed Pad, Plastic Very Thin QFN Package (VQFN); ComponentLink1Description: Manufacturer URL; ComponentLink1URL: http://www.atmel.com/; ComponentLink2Description: Datasheet; ComponentLink2URL: http://www.atmel.com/Images/doc9634.pdf
footprint 20M2_N (QFN, 20-Leads, Body 3x3mm, Pitch 0.45mm, Thermal Pad 1.7x1.7mm, IPC Medium Density)
footprint 20M2_L (QFN, 20-Leads, Body 3x3mm, Pitch 0.45mm, Thermal Pad 1.7x1.7mm, IPC High Density)
footprint 20M2_M (QFN, 20-Leads, Body 3x3mm, Pitch 0.45mm, Thermal Pad 1.7x1.7mm, IPC Low Density)
pins: 1 KEY6/GPO4 (io), 2 KEY5/GPO3 (io), 3 KEY4/GPO2 (io), 4 KEY3/GPO1 (io), 5 KEY2/GPO0 (io), 6 GUARD/KEY1 (io), 7 PROX/KEY0 (io), 8 VSS (power), 9 VDD (power), 10 MODE (in), 11 NC/SDA (io), 12 ~{RESET} (in), 13 PXOUT/NC, 14 NC/SCL, 15 NC/~{CHANGE}, 16 OUT6/KEY11/GPO9 (io), 17 OUT5/KEY10/GPO8 (io), 18 OUT4/KEY9/GPO7 (io), 19 OUT3/KEY8/GPO6 (io), 20 OUT2/KEY7/GPO5 (io), 21 EP (power)

## AT42QT2120X-SU
designator U?
QTouch 12-channel Touch Sensor IC, -40° to +85° C, 20-Pin SOIC; DatasheetVersion: revA, Nov-2011; PackageVersion: revB, Nov-2006; PackageReference: 20S2; PackageDescription: 20-lead, 0.300" Wide Body, Plastic Gull Wing Small Outline Package (SOIC); Code_JEDEC: MS-013-AC; Code_IPC: SOIC127P1030-20; ComponentLink1Description: Manufacturer URL; ComponentLink1URL: http://www.atmel.com/; ComponentLink2Description: Datasheet; ComponentLink2URL: http://www.atmel.com/Images/doc9634.pdf
footprint 20S2_N (SOIC, 20-Leads, Body 12.8x7.5mm, Pitch 1.27mm, IPC Medium Density)
footprint 20S2_L (SOIC, 20-Leads, Body 12.8x7.5mm, Pitch 1.27mm, IPC High Density)
footprint 20S2_M (SOIC, 20-Leads, Body 12.8x7.5mm, Pitch 1.27mm, IPC Low Density)
pins: 1 OUT3/KEY8/GPO6 (io), 2 OUT2/KEY7/GPO5 (io), 3 KEY6/GPO4 (io), 4 KEY5/GPO3 (io), 5 KEY4/GPO2 (io), 6 KEY3/GPO1 (io), 7 KEY2/GPO0 (io), 8 GUARD/KEY1 (io), 9 PROX/KEY0 (io), 10 VSS (power), 11 VDD (power), 12 MODE (in), 13 NC/SDA (io), 14 ~{RESET} (in), 15 PXOUT/NC, 16 NC/SCL, 17 NC/~{CHANGE}, 18 OUT6/KEY11/GPO9 (io), 19 OUT5/KEY10/GPO8 (io), 20 OUT4/KEY9/GPO7 (io)

## AT42QT2120X-XU
designator U?
QTouch 12-channel Touch Sensor IC, -40° to +85° C, 20-Pin TSSOP; DatasheetVersion: revA, Nov-2011; PackageVersion: revC, Oct-2003; PackageReference: 20X; PackageDescription: 20-lead, 4.4 mm Body Width, Plastic Thin Shrink Small Outline Package (TSSOP); ComponentLink1Description: Manufacturer URL; ComponentLink1URL: http://www.atmel.com/; ComponentLink2Description: Datasheet; ComponentLink2URL: http://www.atmel.com/Images/doc9634.pdf
footprint 20X_N (TSOP, 20-Leads, Body 6.5x4.4mm, Pitch 0.65mm, IPC Medium Density)
footprint 20X_L (TSOP, 20-Leads, Body 6.5x4.4mm, Pitch 0.65mm, IPC High Density)
footprint 20X_M (TSOP, 20-Leads, Body 6.5x4.4mm, Pitch 0.65mm, IPC Low Density)
pins: 1 OUT3/KEY8/GPO6 (io), 2 OUT2/KEY7/GPO5 (io), 3 KEY6/GPO4 (io), 4 KEY5/GPO3 (io), 5 KEY4/GPO2 (io), 6 KEY3/GPO1 (io), 7 KEY2/GPO0 (io), 8 GUARD/KEY1 (io), 9 PROX/KEY0 (io), 10 VSS (power), 11 VDD (power), 12 MODE (in), 13 NC/SDA (io), 14 ~{RESET} (in), 15 PXOUT/NC, 16 NC/SCL, 17 NC/~{CHANGE}, 18 OUT6/KEY11/GPO9 (io), 19 OUT5/KEY10/GPO8 (io), 20 OUT4/KEY9/GPO7 (io)

## AT42QT2160-MMU
designator U?
QSlide 16-key QMatrix Sensor IC, -40° to +85° C, 28-Pin VQFN; DatasheetVersion: revA, Jul-2008; PackageVersion: revB, Nov-2008; PackageReference: 28M1; PackageDescription: 28-pad, 4x4x1.0mm Body, Pitch 0.45mm, 2.4x2.4mm Exposed Pad, Plastic Very Thin QFN Package (VQFN); ComponentLink1Description: Manufacturer URL; ComponentLink1URL: http://www.atmel.com/; ComponentLink2Description: Datasheet; ComponentLink2URL: http://www.atmel.com/Images/AT42QT2160_DS.pdf
footprint 28M1_N (QFN, 28-Leads, Body 4x4mm, Pitch 0.45mm, Thermal Pad 2.5x2.5mm, IPC Medium Density)
footprint 28M1_L (QFN, 28-Leads, Body 4x4mm, Pitch 0.45mm, Thermal Pad 2.5x2.5mm, IPC High Density)
footprint 28M1_M (QFN, 28-Leads, Body 4x4mm, Pitch 0.45mm, Thermal Pad 2.5x2.5mm, IPC Low Density)
pins: 1 GPIO2 (io), 2 GPIO3 (io), 3 VDD (power), 4 VSS (power), 5 X6 (out), 6 X7 (out), 7 ~{CHANGE} (oc), 8 VREF (power), 9 SMP (out), 10 X0 (out), 11 X1 (out), 12 X2 (out), 13 X3 (out), 14 X4 (out), 15 X5 (out), 16 VDD (power), 17 VDD (power), 18 VSS (power), 19 Y0B (io), 20 Y1B (io), 21 I2CA0 (in), 22 I2CA1 (in), 23 SDA (io), 24 SCL (in), 25 ~{RST} (in), 26 Y0A (io), 27 Y1A (io), 28 GPIO1 (io)

## QT60160-ISG
designator U?
16-key QMatrix Touch Sensor IC, -40° to +85° C, 32-Pin MLF; DatasheetVersion: rev8.06, Sep-2006; PackageVersion: 2006; PackageReference: MLF-32; PackageDescription: 32-Pin Quad Flat No-Lead, 5 x 5 mm Body,  0.5 mm Pitch (MLF); ComponentLink1Description: Manufacturer URL; ComponentLink1URL: http://www.atmel.com/; ComponentLink2Description: Datasheet; ComponentLink2URL: http://www.atmel.com/Images/qt60240_r8.06.pdf
footprint MLF-32_N (QFN, 32-Leads, Body 5x5mm, Pitch 0.5mm, Thermal Pad 3.3x3.3mm, IPC Medium Density)
footprint MLF-32_L (QFN, 32-Leads, Body 5x5mm, Pitch 0.5mm, Thermal Pad 3.3x3.3mm, IPC High Density)
footprint MLF-32_M (QFN, 32-Leads, Body 5x5mm, Pitch 0.5mm, Thermal Pad 3.3x3.3mm, IPC Low Density)
pins: 1 M_SYNC (in), 2 CHANGE (out), 3 VSS (power), 4 VDD (power), 5 VSS (power), 6 VDD (power), 7 X6 (out), 8 X7 (out), 9 LATCH (out), 10 VREF (power), 11 S_SYNC (out), 12 X0 (out), 13 X1 (out), 14 X2 (out), 15 X3 (out), 16 X4 (out), 17 X5 (out), 18 VDD (power), 19 A1 (in), 20 VDD (power), 21 VSS (power), 22 A0 (in), 23 Y0B, 24 Y1B, 25 Y2B, 26 SMP (out), 27 SDA (io), 28 SCL (in), 29 ~{RST} (in), 30 Y0A, 31 Y1A, 32 Y2A

## QT60168-ASG
designator U?
QProx 16-key QMatrix Touch Sensor IC, -40° to +105° C, 32-Pin TQFP; DatasheetVersion: rev4.02, Apr-2005; PackageVersion: revC, Oct-2010; PackageReference: 32A; PackageDescription: 32-Lead, 7x7x1.0 mm Body, 0.8mm Lead Pitch, Thin Profile Plastic Quad Flat Package (TQFP); Code_JEDEC: MS-026-ABA; ComponentLink1Description: Manufacturer URL; ComponentLink1URL: http://www.atmel.com/; ComponentLink2Description: Datasheet; ComponentLink2URL: http://www.atmel.com/Images/qt60248_402.pdf
footprint 32A_N (Thin QFP, 32-Leads, Body 7x7mm, Pitch 0.8mm, IPC Medium Density)
footprint 32A_L (Thin QFP, 32-Leads, Body 7x7mm, Pitch 0.8mm, IPC High Density)
footprint 32A_M (Thin QFP, 32-Leads, Body 7x7mm, Pitch 0.8mm, IPC Low Density)
pins: 1 X3 (out), 2 X4 (out), 3 VSS (power), 4 VDD (power), 5 VSS (power), 6 VDD (power), 7 X5 (out), 8 X6 (out), 9 X7 (out), 10 VREF, 11 S_SYNC (out), 12 SMP (out), 13 DRDY (oc), 14 ~{SS} (in), 15 MOSI (in), 16 MISO (out), 17 SCK (in), 18 VDD (power), 19 SYNC (in), 20 VDD (power), 21 VSS (power), 22 NC, 23 Y0B, 24 Y1B, 25 Y2B, 26 Y0A, 27 Y1A, 28 Y2A, 29 ~{RST} (in), 30 X0 (out), 31 X1 (out), 32 X2 (out)

## QT60168C-ASG
designator U?
QProx 16-key QMatrix Touch Sensor IC, -40° to +105° C, 32-Pin TQFP; DatasheetVersion: rev4.02, Apr-2005; PackageVersion: revC, Oct-2010; PackageReference: 32A; PackageDescription: 32-Lead, 7x7x1.0 mm Body, 0.8mm Lead Pitch, Thin Profile Plastic Quad Flat Package (TQFP); Code_JEDEC: MS-026-ABA; ComponentLink1Description: Manufacturer URL; ComponentLink1URL: http://www.atmel.com/; ComponentLink2Description: Datasheet; ComponentLink2URL: http://www.atmel.com/Images/qt60248_402.pdf
footprint 32A_N (Thin QFP, 32-Leads, Body 7x7mm, Pitch 0.8mm, IPC Medium Density)
footprint 32A_L (Thin QFP, 32-Leads, Body 7x7mm, Pitch 0.8mm, IPC High Density)
footprint 32A_M (Thin QFP, 32-Leads, Body 7x7mm, Pitch 0.8mm, IPC Low Density)
pins: 1 X3 (out), 2 X4 (out), 3 VSS (power), 4 VDD (power), 5 VSS (power), 6 VDD (power), 7 X5 (out), 8 X6 (out), 9 X7 (out), 10 VREF, 11 S_SYNC (out), 12 SMP (out), 13 DRDY (oc), 14 ~{SS} (in), 15 MOSI (in), 16 MISO (out), 17 SCK (in), 18 VDD (power), 19 SYNC (in), 20 VDD (power), 21 VSS (power), 22 NC, 23 Y0B, 24 Y1B, 25 Y2B, 26 Y0A, 27 Y1A, 28 Y2A, 29 ~{RST} (in), 30 X0 (out), 31 X1 (out), 32 X2 (out)

## QT60240-ISG
designator U?
24-key QMatrix Touch Sensor IC, -40° to +85° C, 32-Pin MLF; DatasheetVersion: rev8.06, Sep-2006; PackageVersion: 2006; PackageReference: MLF-32; PackageDescription: 32-Pin Quad Flat No-Lead, 5 x 5 mm Body,  0.5 mm Pitch (MLF); ComponentLink1Description: Manufacturer URL; ComponentLink1URL: http://www.atmel.com/; ComponentLink2Description: Datasheet; ComponentLink2URL: http://www.atmel.com/Images/qt60240_r8.06.pdf
footprint MLF-32_N (QFN, 32-Leads, Body 5x5mm, Pitch 0.5mm, Thermal Pad 3.3x3.3mm, IPC Medium Density)
footprint MLF-32_L (QFN, 32-Leads, Body 5x5mm, Pitch 0.5mm, Thermal Pad 3.3x3.3mm, IPC High Density)
footprint MLF-32_M (QFN, 32-Leads, Body 5x5mm, Pitch 0.5mm, Thermal Pad 3.3x3.3mm, IPC Low Density)
pins: 1 M_SYNC (in), 2 CHANGE (out), 3 VSS (power), 4 VDD (power), 5 VSS (power), 6 VDD (power), 7 X6 (out), 8 X7 (out), 9 LATCH (out), 10 VREF (power), 11 S_SYNC (out), 12 X0 (out), 13 X1 (out), 14 X2 (out), 15 X3 (out), 16 X4 (out), 17 X5 (out), 18 VDD (power), 19 A1 (in), 20 VDD (power), 21 VSS (power), 22 A0 (in), 23 Y0B, 24 Y1B, 25 Y2B, 26 SMP (out), 27 SDA (io), 28 SCL (in), 29 ~{RST} (in), 30 Y0A, 31 Y1A, 32 Y2A

## QT60248-ASG
designator U?
QProx 24-key QMatrix Touch Sensor IC, -40° to +105° C, 32-Pin TQFP; DatasheetVersion: rev4.02, Apr-2005; PackageVersion: revC, Oct-2010; PackageReference: 32A; PackageDescription: 32-Lead, 7x7x1.0 mm Body, 0.8mm Lead Pitch, Thin Profile Plastic Quad Flat Package (TQFP); Code_JEDEC: MS-026-ABA; ComponentLink1Description: Manufacturer URL; ComponentLink1URL: http://www.atmel.com/; ComponentLink2Description: Datasheet; ComponentLink2URL: http://www.atmel.com/Images/qt60248_402.pdf
footprint 32A_N (Thin QFP, 32-Leads, Body 7x7mm, Pitch 0.8mm, IPC Medium Density)
footprint 32A_L (Thin QFP, 32-Leads, Body 7x7mm, Pitch 0.8mm, IPC High Density)
footprint 32A_M (Thin QFP, 32-Leads, Body 7x7mm, Pitch 0.8mm, IPC Low Density)
pins: 1 X3 (out), 2 X4 (out), 3 VSS (power), 4 VDD (power), 5 VSS (power), 6 VDD (power), 7 X5 (out), 8 X6 (out), 9 X7 (out), 10 VREF, 11 S_SYNC (out), 12 SMP (out), 13 DRDY (oc), 14 ~{SS} (in), 15 MOSI (in), 16 MISO (out), 17 SCK (in), 18 VDD (power), 19 SYNC (in), 20 VDD (power), 21 VSS (power), 22 NC, 23 Y0B, 24 Y1B, 25 Y2B, 26 Y0A, 27 Y1A, 28 Y2A, 29 ~{RST} (in), 30 X0 (out), 31 X1 (out), 32 X2 (out)

## QT60248C-ASG
designator U?
QProx 24-key QMatrix Touch Sensor IC, -40° to +105° C, 32-Pin TQFP; DatasheetVersion: rev4.02, Apr-2005; PackageVersion: revC, Oct-2010; PackageReference: 32A; PackageDescription: 32-Lead, 7x7x1.0 mm Body, 0.8mm Lead Pitch, Thin Profile Plastic Quad Flat Package (TQFP); Code_JEDEC: MS-026-ABA; ComponentLink1Description: Manufacturer URL; ComponentLink1URL: http://www.atmel.com/; ComponentLink2Description: Datasheet; ComponentLink2URL: http://www.atmel.com/Images/qt60248_402.pdf
footprint 32A_N (Thin QFP, 32-Leads, Body 7x7mm, Pitch 0.8mm, IPC Medium Density)
footprint 32A_L (Thin QFP, 32-Leads, Body 7x7mm, Pitch 0.8mm, IPC High Density)
footprint 32A_M (Thin QFP, 32-Leads, Body 7x7mm, Pitch 0.8mm, IPC Low Density)
pins: 1 X3 (out), 2 X4 (out), 3 VSS (power), 4 VDD (power), 5 VSS (power), 6 VDD (power), 7 X5 (out), 8 X6 (out), 9 X7 (out), 10 VREF, 11 S_SYNC (out), 12 SMP (out), 13 DRDY (oc), 14 ~{SS} (in), 15 MOSI (in), 16 MISO (out), 17 SCK (in), 18 VDD (power), 19 SYNC (in), 20 VDD (power), 21 VSS (power), 22 NC, 23 Y0B, 24 Y1B, 25 Y2B, 26 Y0A, 27 Y1A, 28 Y2A, 29 ~{RST} (in), 30 X0 (out), 31 X1 (out), 32 X2 (out)

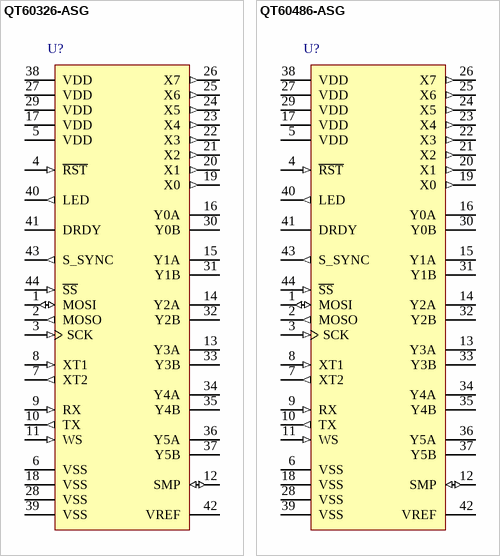
[diagram p2: symbols QT60326-ASG to QT60486-ASG]

## QT60326-ASG
designator U?
32-key QMatrix Touch Sensor IC, -40° to +105° C, 44-Pin TQFP; DatasheetVersion: rev8.01, Jan-2005; PackageVersion: revC, Oct-2010; PackageReference: 44A; PackageDescription: 44-Pin Plastic Thin Profile Quad Flat Pack, 10 x 10 x 1.0 mm Body, 0.8 mm Pitch (TQFP); Code_JEDEC: MS-026-ACB; ComponentLink1Description: Manufacturer URL; ComponentLink1URL: http://www.atmel.com/; ComponentLink2Description: Datasheet; ComponentLink2URL: http://www.atmel.com/Images/qt60486_801.pdf
footprint 44A_N (Thin QFP, 44-Leads, Body 10x10mm, Pitch 0.8mm, IPC Medium Density)
footprint 44A_L (Thin QFP, 44-Leads, Body 10x10mm, Pitch 0.8mm, IPC High Density)
footprint 44A_M (Thin QFP, 44-Leads, Body 10x10mm, Pitch 0.8mm, IPC Low Density)
pins: 1 MOSI (io), 2 MOSO (out), 3 SCK (in), 4 ~{RST} (in), 5 VDD (power), 6 VSS (power), 7 XT2 (out), 8 XT1 (in), 9 RX (in), 10 TX (out), 11 WS (in), 12 SMP (io), 13 Y3A, 14 Y2A, 15 Y1A, 16 Y0A, 17 VDD (power), 18 VSS (power), 19 X0 (out), 20 X1 (out), 21 X2 (out), 22 X3 (out), 23 X4 (out), 24 X5 (out), 25 X6 (out), 26 X7 (out), 27 VDD (power), 28 VSS (power), 29 VDD (power), 30 Y0B, 31 Y1B, 32 Y2B, 33 Y3B, 34 Y4A, 35 Y4B, 36 Y5A, 37 Y5B, 38 VDD (power), 39 VSS (power), 40 LED (out), 41 DRDY (oc), 42 VREF, 43 S_SYNC (out), 44 ~{SS} (in)

## QT60486-ASG
designator U?
48-key QMatrix Touch Sensor IC, -40° to +105° C, 44-Pin TQFP; DatasheetVersion: rev8.01, Jan-2005; PackageVersion: revC, Oct-2010; PackageReference: 44A; PackageDescription: 44-Pin Plastic Thin Profile Quad Flat Pack, 10 x 10 x 1.0 mm Body, 0.8 mm Pitch (TQFP); Code_JEDEC: MS-026-ACB; ComponentLink1Description: Manufacturer URL; ComponentLink1URL: http://www.atmel.com/; ComponentLink2Description: Datasheet; ComponentLink2URL: http://www.atmel.com/Images/qt60486_801.pdf
footprint 44A_N (Thin QFP, 44-Leads, Body 10x10mm, Pitch 0.8mm, IPC Medium Density)
footprint 44A_L (Thin QFP, 44-Leads, Body 10x10mm, Pitch 0.8mm, IPC High Density)
footprint 44A_M (Thin QFP, 44-Leads, Body 10x10mm, Pitch 0.8mm, IPC Low Density)
pins: 1 MOSI (io), 2 MOSO (out), 3 SCK (in), 4 ~{RST} (in), 5 VDD (power), 6 VSS (power), 7 XT2 (out), 8 XT1 (in), 9 RX (in), 10 TX (out), 11 WS (in), 12 SMP (io), 13 Y3A, 14 Y2A, 15 Y1A, 16 Y0A, 17 VDD (power), 18 VSS (power), 19 X0 (out), 20 X1 (out), 21 X2 (out), 22 X3 (out), 23 X4 (out), 24 X5 (out), 25 X6 (out), 26 X7 (out), 27 VDD (power), 28 VSS (power), 29 VDD (power), 30 Y0B, 31 Y1B, 32 Y2B, 33 Y3B, 34 Y4A, 35 Y4B, 36 Y5A, 37 Y5B, 38 VDD (power), 39 VSS (power), 40 LED (out), 41 DRDY (oc), 42 VREF, 43 S_SYNC (out), 44 ~{SS} (in)